# Altium integrated library TI Data Converters Digital to Analog Converter.IntLib: 1533 symbols (part 90 of 99)
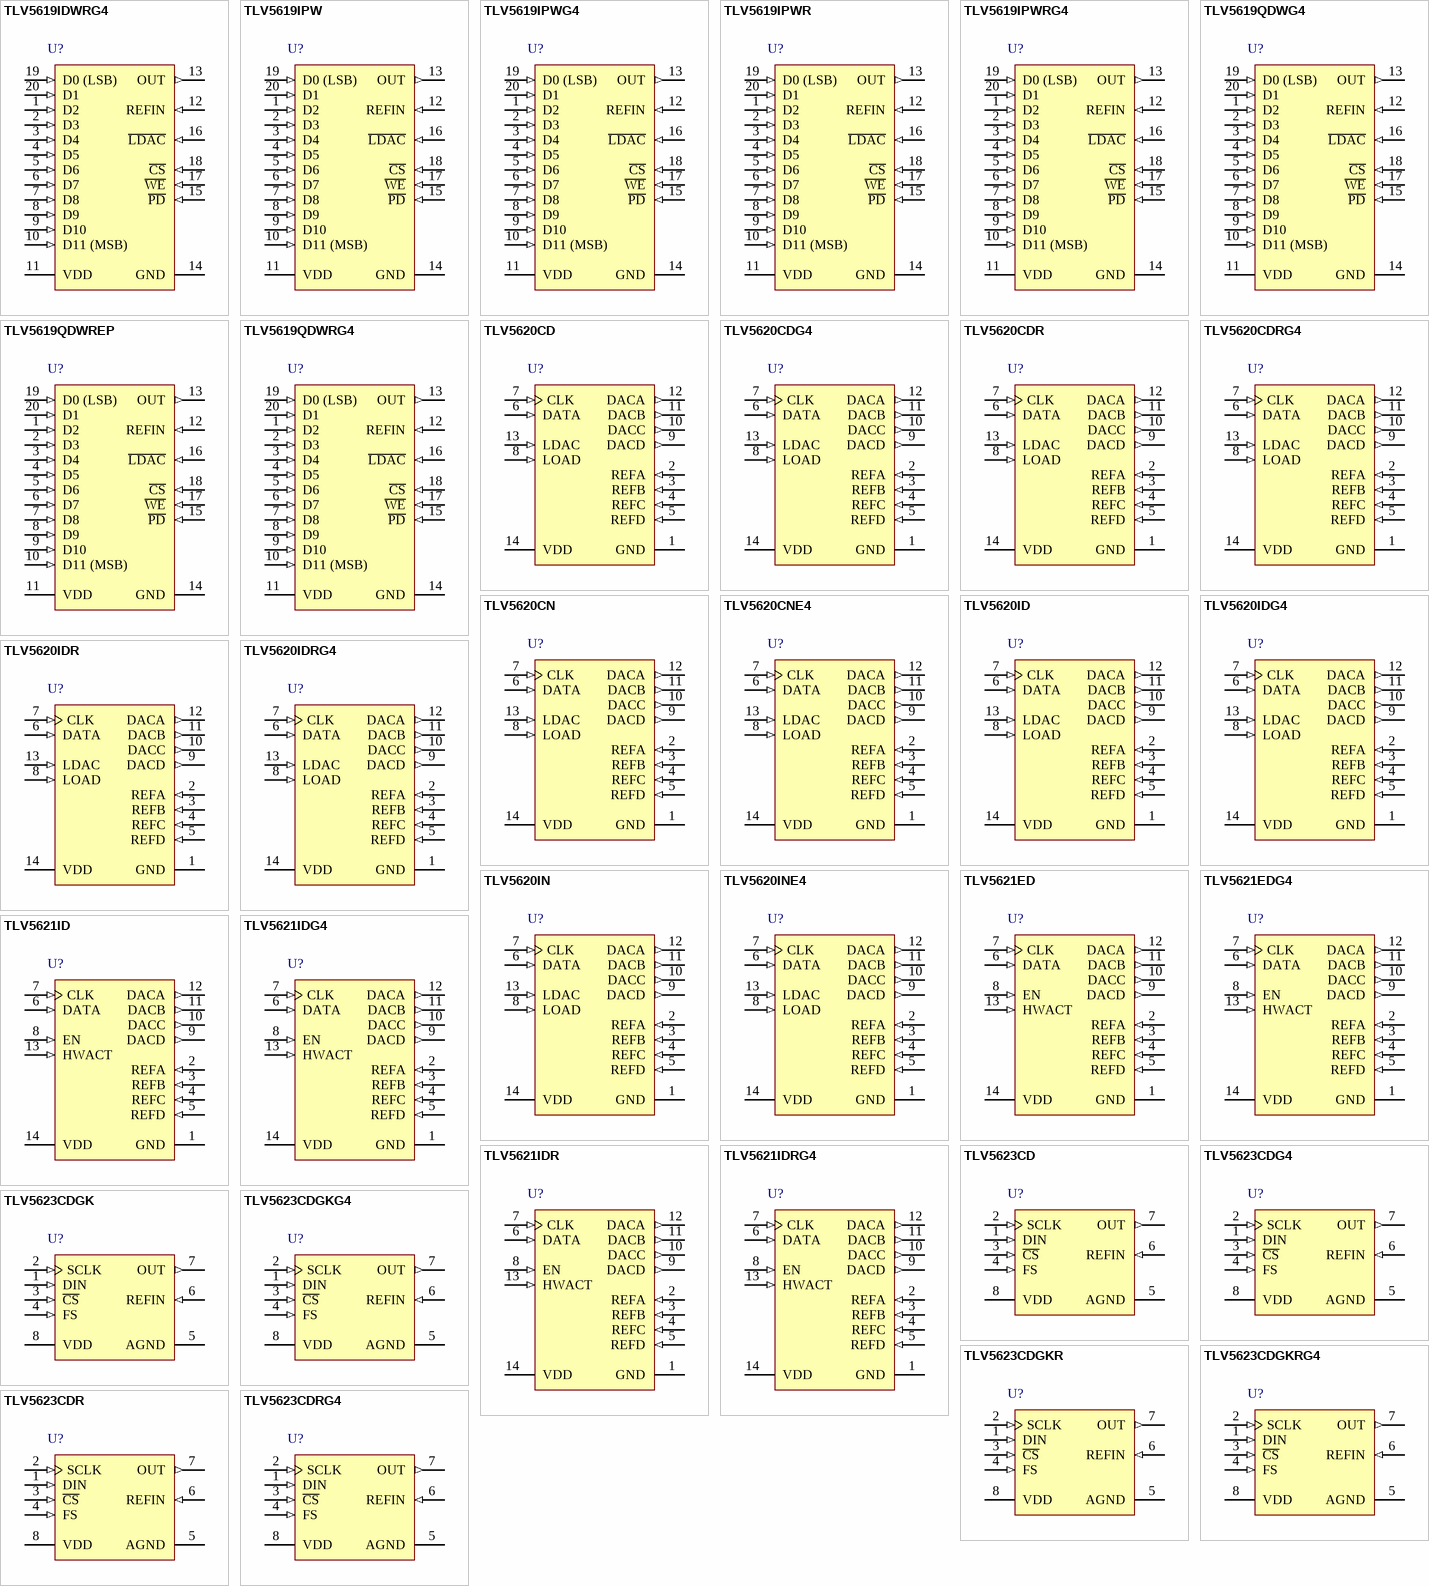
[diagram p162: symbols TLV5619IDWRG4 to TLV5623CDRG4]

## TLV5620INE4
designator U?
8-Bit, 10 us DAC, Serial Input, Quad DAC, Programmable 1 x or 2 x Output, Simultaneous Update, -40 to 85 degC, 14-pin DIP (N14), Pb-Free (RoHS); Manufacturer: Texas Instruments; PartNumber: TLV5620INE4; DAC Channels: 4; DNL(Max)(+/-LSB): 0.9; INL(Max)(+/-LSB): 1; Interface: Serial SPI; Power Consumption(Typ)(mW): 6; Resolution(Bits): 8; Settling Time(us): 10; SubFamily: Precision DAC (=<10MSPS); DatasheetVersion: SLAS110B; PackageVersion: 4040049/E, 12/2002; PackageReference: N14; PackageDescription: 14-Pin Plastic In-Line, Body 19.305 x 6.35 mm, Pitch 2.54 mm; Supplier 1: Digi-Key; Supplier Part Number 1: TLV5620INE4-ND; Supplier 2: Mouser; Supplier Part Number 2: 595-TLV5620INE4; Eco-Plan: Pb-Free (RoHS); Mounting Technology: Through Hole; Code_JEDEC: MS-001; ComponentLink1Description: Manufacturer URL; ComponentLink1URL: http://www.ti.com/; ComponentLink2Description: Datasheet; ComponentLink2URL: http://www.ti.com/general/docs/lit/getliterature.tsp?genericPartNumber=TLV5620&fileType=pdf; ComponentLink3Description: Package Specification; ComponentLink3URL: http://www.ti.com/lit/ml/mpdi002c/mpdi002c.pdf
footprint TI-N14 (DIP, 14-Leads, Body 19.305x6.35mm, Pitch 2.54mm)
pins: 1 GND (power) "Ground return and reference", 2 REFA (in) "Reference voltage input to DAC A. This voltage defines the output analog range.", 3 REFB (in) "Reference voltage input to DAC B. This voltage defines the output analog range.", 4 REFC (in) "Reference voltage input to DAC C. This voltage defines the output analog range.", 5 REFD (in) "Reference voltage input to DAC D. This voltage defines the output analog range.", 6 DATA (in) "Serial interface digital data input. The digital code for the DAC is clocked into the serial interface register serially. Each data bit is clocked into the register on the falling edge of the clock signal.", 7 CLK (in) "Serial interface clock. The input digital data is shifted into the serial interface register on the falling edge of the clock applied to the CLK terminal.", 8 LOAD (in) "Serial interface load control. When the LDAC terminal is low, the falling edge of the LOAD signal latches the digital data into the output latch and immediately produces the analog voltage at the DAC output terminal.", 9 DACD (out) "DAC D analog output", 10 DACC (out) "DAC C analog output", 11 DACB (out) "DAC B analog output", 12 DACA (out) "DAC A analog output", 13 LDAC (in) "Load DAC. When this signal is high, no DAC output updates occur when the input digital data is read into the serial interface. The DAC outputs are only updated when LDAC is taken from high to low.", 14 VDD (power) "Positive supply voltage"

## TLV5621ED
designator U?
8-Bit, 10 us Quad DAC, Serial Input, Simple 2 Wire Interface, Programmable 1 x or 2 x Output, Power Down, -40 to 85 degC, 14-pin SOIC (D14), Green (RoHS & no Sb/Br); Manufacturer: Texas Instruments; PartNumber: TLV5621ED; DAC Channels: 4; DNL(Max)(+/-LSB): 0.9; INL(Max)(+/-LSB): 1; Interface: Serial SPI; Power Consumption(Typ)(mW): 3.6; Resolution(Bits): 8; Settling Time(us): 10; SubFamily: Precision DAC (=<10MSPS); DatasheetVersion: SLAS138B; PackageVersion: 4040047-5/M, 06/2011; PackageReference: D14; PackageDescription: 14-Pin Plastic Small Outline, Body 8.65 x 3.9 mm, Pitch 1.27 mm; Supplier 1: Digi-Key; Supplier Part Number 1: 296-3050-5-ND; Supplier 2: Mouser; Supplier Part Number 2: 595-TLV5621ED; Eco-Plan: Green (RoHS & no Sb/Br); Mounting Technology: Surface Mount; Code_JEDEC: MS-012; ComponentLink1Description: Manufacturer URL; ComponentLink1URL: http://www.ti.com/; ComponentLink2Description: Datasheet; ComponentLink2URL: http://www.ti.com/general/docs/lit/getliterature.tsp?genericPartNumber=TLV5621&fileType=pdf; ComponentLink3Description: Package Specification; ComponentLink3URL: http://www.ti.com/lit/ml/mpds177g/mpds177g.pdf
footprint TI-D14_N (SOIC, 14-Leads, Body 8.65x3.9mm, Pitch 1.27mm, IPC Medium Density)
footprint TI-D14_L (SOIC, 14-Leads, Body 8.65x3.9mm, Pitch 1.27mm, IPC High Density)
footprint TI-D14_M (SOIC, 14-Leads, Body 8.65x3.9mm, Pitch 1.27mm, IPC Low Density)
pins: 1 GND (power) "Ground return and reference", 2 REFA (in) "Reference voltage input to DACA", 3 REFB (in) "Reference voltage input to DACB", 4 REFC (in) "Reference voltage input to DACC", 5 REFD (in) "Reference voltage input to DACD", 6 DATA (in) "Serial-interface digital-data input", 7 CLK (in) "Serial interface clock, data enters on the negative edge", 8 EN (in) "Input enable", 9 DACD (out) "DAC D analog output", 10 DACC (out) "DAC C analog output", 11 DACB (out) "DAC B analog output", 12 DACA (out) "DAC A analog output", 13 HWACT (in) "Global hardware activate", 14 VDD (power) "Positive supply voltage"

## TLV5621EDG4
designator U?
8-Bit, 10 us Quad DAC, Serial Input, Simple 2 Wire Interface, Programmable 1 x or 2 x Output, Power Down, -40 to 85 degC, 14-pin SOIC (D14), Green (RoHS & no Sb/Br); Manufacturer: Texas Instruments; PartNumber: TLV5621EDG4; DAC Channels: 4; DNL(Max)(+/-LSB): 0.9; INL(Max)(+/-LSB): 1; Interface: Serial SPI; Power Consumption(Typ)(mW): 3.6; Resolution(Bits): 8; Settling Time(us): 10; SubFamily: Precision DAC (=<10MSPS); DatasheetVersion: SLAS138B; PackageVersion: 4040047-5/M, 06/2011; PackageReference: D14; PackageDescription: 14-Pin Plastic Small Outline, Body 8.65 x 3.9 mm, Pitch 1.27 mm; Supplier 1: Digi-Key; Supplier Part Number 1: TLV5621EDG4-ND; Supplier 2: Mouser; Supplier Part Number 2: 595-TLV5621EDG4; Eco-Plan: Green (RoHS & no Sb/Br); Mounting Technology: Surface Mount; Code_JEDEC: MS-012; ComponentLink1Description: Manufacturer URL; ComponentLink1URL: http://www.ti.com/; ComponentLink2Description: Datasheet; ComponentLink2URL: http://www.ti.com/general/docs/lit/getliterature.tsp?genericPartNumber=TLV5621&fileType=pdf; ComponentLink3Description: Package Specification; ComponentLink3URL: http://www.ti.com/lit/ml/mpds177g/mpds177g.pdf
footprint TI-D14_N (SOIC, 14-Leads, Body 8.65x3.9mm, Pitch 1.27mm, IPC Medium Density)
footprint TI-D14_L (SOIC, 14-Leads, Body 8.65x3.9mm, Pitch 1.27mm, IPC High Density)
footprint TI-D14_M (SOIC, 14-Leads, Body 8.65x3.9mm, Pitch 1.27mm, IPC Low Density)
pins: 1 GND (power) "Ground return and reference", 2 REFA (in) "Reference voltage input to DACA", 3 REFB (in) "Reference voltage input to DACB", 4 REFC (in) "Reference voltage input to DACC", 5 REFD (in) "Reference voltage input to DACD", 6 DATA (in) "Serial-interface digital-data input", 7 CLK (in) "Serial interface clock, data enters on the negative edge", 8 EN (in) "Input enable", 9 DACD (out) "DAC D analog output", 10 DACC (out) "DAC C analog output", 11 DACB (out) "DAC B analog output", 12 DACA (out) "DAC A analog output", 13 HWACT (in) "Global hardware activate", 14 VDD (power) "Positive supply voltage"

## TLV5621ID
designator U?
8-Bit, 10 us Quad DAC, Serial Input, Simple 2 Wire Interface, Programmable 1 x or 2 x Output, Power Down, -40 to 85 degC, 14-pin SOIC (D14), Green (RoHS & no Sb/Br); Manufacturer: Texas Instruments; PartNumber: TLV5621ID; DAC Channels: 4; DNL(Max)(+/-LSB): 0.9; INL(Max)(+/-LSB): 1; Interface: Serial SPI; Power Consumption(Typ)(mW): 3.6; Resolution(Bits): 8; Settling Time(us): 10; SubFamily: Precision DAC (=<10MSPS); DatasheetVersion: SLAS138B; PackageVersion: 4040047-5/M, 06/2011; PackageReference: D14; PackageDescription: 14-Pin Plastic Small Outline, Body 8.65 x 3.9 mm, Pitch 1.27 mm; Supplier 1: Digi-Key; Supplier Part Number 1: 296-2307-5-ND; Supplier 2: Farnell; Supplier Part Number 2: 8455724; Supplier 3: Mouser; Supplier Part Number 3: 595-TLV5621ID; Eco-Plan: Green (RoHS & no Sb/Br); Mounting Technology: Surface Mount; Code_JEDEC: MS-012; ComponentLink1Description: Manufacturer URL; ComponentLink1URL: http://www.ti.com/; ComponentLink2Description: Datasheet; ComponentLink2URL: http://www.ti.com/general/docs/lit/getliterature.tsp?genericPartNumber=TLV5621&fileType=pdf; ComponentLink3Description: Package Specification; ComponentLink3URL: http://www.ti.com/lit/ml/mpds177g/mpds177g.pdf
footprint TI-D14_N (SOIC, 14-Leads, Body 8.65x3.9mm, Pitch 1.27mm, IPC Medium Density)
footprint TI-D14_L (SOIC, 14-Leads, Body 8.65x3.9mm, Pitch 1.27mm, IPC High Density)
footprint TI-D14_M (SOIC, 14-Leads, Body 8.65x3.9mm, Pitch 1.27mm, IPC Low Density)
pins: 1 GND (power) "Ground return and reference", 2 REFA (in) "Reference voltage input to DACA", 3 REFB (in) "Reference voltage input to DACB", 4 REFC (in) "Reference voltage input to DACC", 5 REFD (in) "Reference voltage input to DACD", 6 DATA (in) "Serial-interface digital-data input", 7 CLK (in) "Serial interface clock, data enters on the negative edge", 8 EN (in) "Input enable", 9 DACD (out) "DAC D analog output", 10 DACC (out) "DAC C analog output", 11 DACB (out) "DAC B analog output", 12 DACA (out) "DAC A analog output", 13 HWACT (in) "Global hardware activate", 14 VDD (power) "Positive supply voltage"

## TLV5621IDG4
designator U?
8-Bit, 10 us Quad DAC, Serial Input, Simple 2 Wire Interface, Programmable 1 x or 2 x Output, Power Down, -40 to 85 degC, 14-pin SOIC (D14), Green (RoHS & no Sb/Br); Manufacturer: Texas Instruments; PartNumber: TLV5621IDG4; DAC Channels: 4; DNL(Max)(+/-LSB): 0.9; INL(Max)(+/-LSB): 1; Interface: Serial SPI; Power Consumption(Typ)(mW): 3.6; Resolution(Bits): 8; Settling Time(us): 10; SubFamily: Precision DAC (=<10MSPS); DatasheetVersion: SLAS138B; PackageVersion: 4040047-5/M, 06/2011; PackageReference: D14; PackageDescription: 14-Pin Plastic Small Outline, Body 8.65 x 3.9 mm, Pitch 1.27 mm; Supplier 1: Digi-Key; Supplier Part Number 1: TLV5621IDG4-ND; Supplier 2: Mouser; Supplier Part Number 2: 595-TLV5621IDG4; Eco-Plan: Green (RoHS & no Sb/Br); Mounting Technology: Surface Mount; Code_JEDEC: MS-012; ComponentLink1Description: Manufacturer URL; ComponentLink1URL: http://www.ti.com/; ComponentLink2Description: Datasheet; ComponentLink2URL: http://www.ti.com/general/docs/lit/getliterature.tsp?genericPartNumber=TLV5621&fileType=pdf; ComponentLink3Description: Package Specification; ComponentLink3URL: http://www.ti.com/lit/ml/mpds177g/mpds177g.pdf
footprint TI-D14_N (SOIC, 14-Leads, Body 8.65x3.9mm, Pitch 1.27mm, IPC Medium Density)
footprint TI-D14_L (SOIC, 14-Leads, Body 8.65x3.9mm, Pitch 1.27mm, IPC High Density)
footprint TI-D14_M (SOIC, 14-Leads, Body 8.65x3.9mm, Pitch 1.27mm, IPC Low Density)
pins: 1 GND (power) "Ground return and reference", 2 REFA (in) "Reference voltage input to DACA", 3 REFB (in) "Reference voltage input to DACB", 4 REFC (in) "Reference voltage input to DACC", 5 REFD (in) "Reference voltage input to DACD", 6 DATA (in) "Serial-interface digital-data input", 7 CLK (in) "Serial interface clock, data enters on the negative edge", 8 EN (in) "Input enable", 9 DACD (out) "DAC D analog output", 10 DACC (out) "DAC C analog output", 11 DACB (out) "DAC B analog output", 12 DACA (out) "DAC A analog output", 13 HWACT (in) "Global hardware activate", 14 VDD (power) "Positive supply voltage"

## TLV5621IDR
designator U?
8-Bit, 10 us Quad DAC, Serial Input, Simple 2 Wire Interface, Programmable 1 x or 2 x Output, Power Down, -40 to 85 degC, 14-pin SOIC (D14), Green (RoHS & no Sb/Br); Manufacturer: Texas Instruments; PartNumber: TLV5621IDR; DAC Channels: 4; DNL(Max)(+/-LSB): 0.9; INL(Max)(+/-LSB): 1; Interface: Serial SPI; Power Consumption(Typ)(mW): 3.6; Resolution(Bits): 8; Settling Time(us): 10; SubFamily: Precision DAC (=<10MSPS); DatasheetVersion: SLAS138B; PackageVersion: 4040047-5/M, 06/2011; PackageReference: D14; PackageDescription: 14-Pin Plastic Small Outline, Body 8.65 x 3.9 mm, Pitch 1.27 mm; Supplier 1: Digi-Key; Supplier Part Number 1: TLV5621IDR-ND; Supplier 2: Mouser; Supplier Part Number 2: 595-TLV5621IDR; Eco-Plan: Green (RoHS & no Sb/Br); Mounting Technology: Surface Mount; Code_JEDEC: MS-012; ComponentLink1Description: Manufacturer URL; ComponentLink1URL: http://www.ti.com/; ComponentLink2Description: Datasheet; ComponentLink2URL: http://www.ti.com/general/docs/lit/getliterature.tsp?genericPartNumber=TLV5621&fileType=pdf; ComponentLink3Description: Package Specification; ComponentLink3URL: http://www.ti.com/lit/ml/mpds177g/mpds177g.pdf
footprint TI-D14_N (SOIC, 14-Leads, Body 8.65x3.9mm, Pitch 1.27mm, IPC Medium Density)
footprint TI-D14_L (SOIC, 14-Leads, Body 8.65x3.9mm, Pitch 1.27mm, IPC High Density)
footprint TI-D14_M (SOIC, 14-Leads, Body 8.65x3.9mm, Pitch 1.27mm, IPC Low Density)
pins: 1 GND (power) "Ground return and reference", 2 REFA (in) "Reference voltage input to DACA", 3 REFB (in) "Reference voltage input to DACB", 4 REFC (in) "Reference voltage input to DACC", 5 REFD (in) "Reference voltage input to DACD", 6 DATA (in) "Serial-interface digital-data input", 7 CLK (in) "Serial interface clock, data enters on the negative edge", 8 EN (in) "Input enable", 9 DACD (out) "DAC D analog output", 10 DACC (out) "DAC C analog output", 11 DACB (out) "DAC B analog output", 12 DACA (out) "DAC A analog output", 13 HWACT (in) "Global hardware activate", 14 VDD (power) "Positive supply voltage"

## TLV5621IDRG4
designator U?
8-Bit, 10 us Quad DAC, Serial Input, Simple 2 Wire Interface, Programmable 1 x or 2 x Output, Power Down, -40 to 85 degC, 14-pin SOIC (D14), Green (RoHS & no Sb/Br); Manufacturer: Texas Instruments; PartNumber: TLV5621IDRG4; DAC Channels: 4; DNL(Max)(+/-LSB): 0.9; INL(Max)(+/-LSB): 1; Interface: Serial SPI; Power Consumption(Typ)(mW): 3.6; Resolution(Bits): 8; Settling Time(us): 10; SubFamily: Precision DAC (=<10MSPS); DatasheetVersion: SLAS138B; PackageVersion: 4040047-5/M, 06/2011; PackageReference: D14; PackageDescription: 14-Pin Plastic Small Outline, Body 8.65 x 3.9 mm, Pitch 1.27 mm; Supplier 1: Digi-Key; Supplier Part Number 1: TLV5621IDRG4-ND; Supplier 2: Mouser; Supplier Part Number 2: 595-TLV5621IDRG4; Eco-Plan: Green (RoHS & no Sb/Br); Mounting Technology: Surface Mount; Code_JEDEC: MS-012; ComponentLink1Description: Manufacturer URL; ComponentLink1URL: http://www.ti.com/; ComponentLink2Description: Datasheet; ComponentLink2URL: http://www.ti.com/general/docs/lit/getliterature.tsp?genericPartNumber=TLV5621&fileType=pdf; ComponentLink3Description: Package Specification; ComponentLink3URL: http://www.ti.com/lit/ml/mpds177g/mpds177g.pdf
footprint TI-D14_N (SOIC, 14-Leads, Body 8.65x3.9mm, Pitch 1.27mm, IPC Medium Density)
footprint TI-D14_L (SOIC, 14-Leads, Body 8.65x3.9mm, Pitch 1.27mm, IPC High Density)
footprint TI-D14_M (SOIC, 14-Leads, Body 8.65x3.9mm, Pitch 1.27mm, IPC Low Density)
pins: 1 GND (power) "Ground return and reference", 2 REFA (in) "Reference voltage input to DACA", 3 REFB (in) "Reference voltage input to DACB", 4 REFC (in) "Reference voltage input to DACC", 5 REFD (in) "Reference voltage input to DACD", 6 DATA (in) "Serial-interface digital-data input", 7 CLK (in) "Serial interface clock, data enters on the negative edge", 8 EN (in) "Input enable", 9 DACD (out) "DAC D analog output", 10 DACC (out) "DAC C analog output", 11 DACB (out) "DAC B analog output", 12 DACA (out) "DAC A analog output", 13 HWACT (in) "Global hardware activate", 14 VDD (power) "Positive supply voltage"

## TLV5623CD
designator U?
8-Bit, 3 us DAC, Serial Input, Programmable Settling Time / Power Consumption, Ultra Low Power, 0 to 70 degC, 8-pin SOIC (D8), Green (RoHS & no Sb/Br); Manufacturer: Texas Instruments; PartNumber: TLV5623CD; DAC Channels: 1; DNL(Max)(+/-LSB): 0.2; INL(Max)(+/-LSB): 0.5; Interface: Serial SPI; Power Consumption(Typ)(mW): 2.1; Resolution(Bits): 8; Settling Time(us): 3; SFDR(dB): 60; SNR(dB): 57; SubFamily: Precision DAC (=<10MSPS); DatasheetVersion: SLAS231B; PackageVersion: 4040047-3/M, 06/2011; PackageReference: D8; PackageDescription: 8-Pin Plastic Small Outline, Body 4.9 x 3.9 mm, Pitch 1.27 mm; Supplier 1: Digi-Key; Supplier Part Number 1: 296-2308-5-ND; Supplier 2: Newark; Supplier Part Number 2: 19C9013; Supplier 3: Mouser; Supplier Part Number 3: 595-TLV5623CD; Eco-Plan: Green (RoHS & no Sb/Br); Mounting Technology: Surface Mount; Code_JEDEC: MS-012; ComponentLink1Description: Manufacturer URL; ComponentLink1URL: http://www.ti.com/; ComponentLink2Description: Datasheet; ComponentLink2URL: http://www.ti.com/general/docs/lit/getliterature.tsp?genericPartNumber=TLV5623&fileType=pdf; ComponentLink3Description: Package Specification; ComponentLink3URL: http://www.ti.com/litv/pdf/msoi002j
footprint TI-D8_N (SOIC, 8-Leads, Body 4.9x3.9mm, Pitch 1.27mm, IPC Medium Density)
footprint TI-D8_L (SOIC, 8-Leads, Body 4.9x3.9mm, Pitch 1.27mm, IPC High Density)
footprint TI-D8_M (SOIC, 8-Leads, Body 4.9x3.9mm, Pitch 1.27mm, IPC Low Density)
pins: 1 DIN (in) "Serial digital data input", 2 SCLK (in) "Serial digital clock input", 3 ~{CS} (in) "Chip select. Digital input used to enable and disable inputs, active low.", 4 FS (in) "Frame sync. Digital input used for 4-wire serial interfaces such as the TMS320 DSP interface.", 5 AGND (power) "Analog ground", 6 REFIN (in) "Reference analog input voltage", 7 OUT (out) "DAC analog output", 8 VDD (power) "Positive power supply"

## TLV5623CDG4
designator U?
8-Bit, 3 us DAC, Serial Input, Programmable Settling Time / Power Consumption, Ultra Low Power, 0 to 70 degC, 8-pin SOIC (D8), Green (RoHS & no Sb/Br); Manufacturer: Texas Instruments; PartNumber: TLV5623CDG4; DAC Channels: 1; DNL(Max)(+/-LSB): 0.2; INL(Max)(+/-LSB): 0.5; Interface: Serial SPI; Power Consumption(Typ)(mW): 2.1; Resolution(Bits): 8; Settling Time(us): 3; SFDR(dB): 60; SNR(dB): 57; SubFamily: Precision DAC (=<10MSPS); DatasheetVersion: SLAS231B; PackageVersion: 4040047-3/M, 06/2011; PackageReference: D8; PackageDescription: 8-Pin Plastic Small Outline, Body 4.9 x 3.9 mm, Pitch 1.27 mm; Supplier 1: Digi-Key; Supplier Part Number 1: TLV5623CDG4-ND; Supplier 2: Mouser; Supplier Part Number 2: 595-TLV5623CDG4; Eco-Plan: Green (RoHS & no Sb/Br); Mounting Technology: Surface Mount; Code_JEDEC: MS-012; ComponentLink1Description: Manufacturer URL; ComponentLink1URL: http://www.ti.com/; ComponentLink2Description: Datasheet; ComponentLink2URL: http://www.ti.com/general/docs/lit/getliterature.tsp?genericPartNumber=TLV5623&fileType=pdf; ComponentLink3Description: Package Specification; ComponentLink3URL: http://www.ti.com/litv/pdf/msoi002j
footprint TI-D8_N (SOIC, 8-Leads, Body 4.9x3.9mm, Pitch 1.27mm, IPC Medium Density)
footprint TI-D8_L (SOIC, 8-Leads, Body 4.9x3.9mm, Pitch 1.27mm, IPC High Density)
footprint TI-D8_M (SOIC, 8-Leads, Body 4.9x3.9mm, Pitch 1.27mm, IPC Low Density)
pins: 1 DIN (in) "Serial digital data input", 2 SCLK (in) "Serial digital clock input", 3 ~{CS} (in) "Chip select. Digital input used to enable and disable inputs, active low.", 4 FS (in) "Frame sync. Digital input used for 4-wire serial interfaces such as the TMS320 DSP interface.", 5 AGND (power) "Analog ground", 6 REFIN (in) "Reference analog input voltage", 7 OUT (out) "DAC analog output", 8 VDD (power) "Positive power supply"

## TLV5623CDGK
designator U?
8-Bit, 3 us DAC, Serial Input, Programmable Settling Time / Power Consumption, Ultra Low Power, 0 to 70 degC, 8-pin SOP (DGK8), Green (RoHS & no Sb/Br); Manufacturer: Texas Instruments; PartNumber: TLV5623CDGK; DAC Channels: 1; DNL(Max)(+/-LSB): 0.2; INL(Max)(+/-LSB): 0.5; Interface: Serial SPI; Power Consumption(Typ)(mW): 2.1; Resolution(Bits): 8; Settling Time(us): 3; SFDR(dB): 60; SNR(dB): 57; SubFamily: Precision DAC (=<10MSPS); DatasheetVersion: SLAS231B; PackageVersion: 4073329/E, 05/2006; PackageReference: DGK8; PackageDescription: 8-Pin Thin Small Outline, Body 3 x 3 mm, Pitch 0.65 mm; Supplier 1: Digi-Key; Supplier Part Number 1: 296-3051-5-ND; Supplier 2: Farnell; Supplier Part Number 2: 1460315; Supplier 3: Newark; Supplier Part Number 3: 62M0547; Supplier 4: Newark; Supplier Part Number 4: 76C8939; Supplier 5: Mouser; Supplier Part Number 5: 595-TLV5623CDGK; Eco-Plan: Green (RoHS & no Sb/Br); Mounting Technology: Surface Mount; Code_JEDEC: MO-187; ComponentLink1Description: Manufacturer URL; ComponentLink1URL: http://www.ti.com/; ComponentLink2Description: Datasheet; ComponentLink2URL: http://www.ti.com/general/docs/lit/getliterature.tsp?genericPartNumber=TLV5623&fileType=pdf; ComponentLink3Description: Package Specification; ComponentLink3URL: http://www.ti.com/litv/pdf/mpds028d
footprint TI-DGK8_N (SOP, 8-Leads, Body 3x3mm, Pitch 0.65mm, IPC Medium Density)
footprint TI-DGK8_L (SOP, 8-Leads, Body 3x3mm, Pitch 0.65mm, IPC High Density)
footprint TI-DGK8_M (SOP, 8-Leads, Body 3x3mm, Pitch 0.65mm, IPC Low Density)
pins: 1 DIN (in) "Serial digital data input", 2 SCLK (in) "Serial digital clock input", 3 ~{CS} (in) "Chip select. Digital input used to enable and disable inputs, active low.", 4 FS (in) "Frame sync. Digital input used for 4-wire serial interfaces such as the TMS320 DSP interface.", 5 AGND (power) "Analog ground", 6 REFIN (in) "Reference analog input voltage", 7 OUT (out) "DAC analog output", 8 VDD (power) "Positive power supply"

## TLV5623CDGKG4
designator U?
8-Bit, 3 us DAC, Serial Input, Programmable Settling Time / Power Consumption, Ultra Low Power, 0 to 70 degC, 8-pin SOP (DGK8), Green (RoHS & no Sb/Br); Manufacturer: Texas Instruments; PartNumber: TLV5623CDGKG4; DAC Channels: 1; DNL(Max)(+/-LSB): 0.2; INL(Max)(+/-LSB): 0.5; Interface: Serial SPI; Power Consumption(Typ)(mW): 2.1; Resolution(Bits): 8; Settling Time(us): 3; SFDR(dB): 60; SNR(dB): 57; SubFamily: Precision DAC (=<10MSPS); DatasheetVersion: SLAS231B; PackageVersion: 4073329/E, 05/2006; PackageReference: DGK8; PackageDescription: 8-Pin Thin Small Outline, Body 3 x 3 mm, Pitch 0.65 mm; Supplier 1: Digi-Key; Supplier Part Number 1: TLV5623CDGKG4-ND; Supplier 2: Mouser; Supplier Part Number 2: 595-TLV5623CDGKG4; Eco-Plan: Green (RoHS & no Sb/Br); Mounting Technology: Surface Mount; Code_JEDEC: MO-187; ComponentLink1Description: Manufacturer URL; ComponentLink1URL: http://www.ti.com/; ComponentLink2Description: Datasheet; ComponentLink2URL: http://www.ti.com/general/docs/lit/getliterature.tsp?genericPartNumber=TLV5623&fileType=pdf; ComponentLink3Description: Package Specification; ComponentLink3URL: http://www.ti.com/litv/pdf/mpds028d
footprint TI-DGK8_N (SOP, 8-Leads, Body 3x3mm, Pitch 0.65mm, IPC Medium Density)
footprint TI-DGK8_L (SOP, 8-Leads, Body 3x3mm, Pitch 0.65mm, IPC High Density)
footprint TI-DGK8_M (SOP, 8-Leads, Body 3x3mm, Pitch 0.65mm, IPC Low Density)
pins: 1 DIN (in) "Serial digital data input", 2 SCLK (in) "Serial digital clock input", 3 ~{CS} (in) "Chip select. Digital input used to enable and disable inputs, active low.", 4 FS (in) "Frame sync. Digital input used for 4-wire serial interfaces such as the TMS320 DSP interface.", 5 AGND (power) "Analog ground", 6 REFIN (in) "Reference analog input voltage", 7 OUT (out) "DAC analog output", 8 VDD (power) "Positive power supply"

## TLV5623CDGKR
designator U?
8-Bit, 3 us DAC, Serial Input, Programmable Settling Time / Power Consumption, Ultra Low Power, 0 to 70 degC, 8-pin SOP (DGK8), Green (RoHS & no Sb/Br); Manufacturer: Texas Instruments; PartNumber: TLV5623CDGKR; DAC Channels: 1; DNL(Max)(+/-LSB): 0.2; INL(Max)(+/-LSB): 0.5; Interface: Serial SPI; Power Consumption(Typ)(mW): 2.1; Resolution(Bits): 8; Settling Time(us): 3; SFDR(dB): 60; SNR(dB): 57; SubFamily: Precision DAC (=<10MSPS); DatasheetVersion: SLAS231B; PackageVersion: 4073329/E, 05/2006; PackageReference: DGK8; PackageDescription: 8-Pin Thin Small Outline, Body 3 x 3 mm, Pitch 0.65 mm; Supplier 1: Digi-Key; Supplier Part Number 1: TLV5623CDGKR-ND; Supplier 2: Newark; Supplier Part Number 2: 76C8940; Supplier 3: Mouser; Supplier Part Number 3: 595-TLV5623CDGKR; Eco-Plan: Green (RoHS & no Sb/Br); Mounting Technology: Surface Mount; Code_JEDEC: MO-187; ComponentLink1Description: Manufacturer URL; ComponentLink1URL: http://www.ti.com/; ComponentLink2Description: Datasheet; ComponentLink2URL: http://www.ti.com/general/docs/lit/getliterature.tsp?genericPartNumber=TLV5623&fileType=pdf; ComponentLink3Description: Package Specification; ComponentLink3URL: http://www.ti.com/litv/pdf/mpds028d
footprint TI-DGK8_N (SOP, 8-Leads, Body 3x3mm, Pitch 0.65mm, IPC Medium Density)
footprint TI-DGK8_L (SOP, 8-Leads, Body 3x3mm, Pitch 0.65mm, IPC High Density)
footprint TI-DGK8_M (SOP, 8-Leads, Body 3x3mm, Pitch 0.65mm, IPC Low Density)
pins: 1 DIN (in) "Serial digital data input", 2 SCLK (in) "Serial digital clock input", 3 ~{CS} (in) "Chip select. Digital input used to enable and disable inputs, active low.", 4 FS (in) "Frame sync. Digital input used for 4-wire serial interfaces such as the TMS320 DSP interface.", 5 AGND (power) "Analog ground", 6 REFIN (in) "Reference analog input voltage", 7 OUT (out) "DAC analog output", 8 VDD (power) "Positive power supply"

## TLV5623CDGKRG4
designator U?
8-Bit, 3 us DAC, Serial Input, Programmable Settling Time / Power Consumption, Ultra Low Power, 0 to 70 degC, 8-pin SOP (DGK8), Green (RoHS & no Sb/Br); Manufacturer: Texas Instruments; PartNumber: TLV5623CDGKRG4; DAC Channels: 1; DNL(Max)(+/-LSB): 0.2; INL(Max)(+/-LSB): 0.5; Interface: Serial SPI; Power Consumption(Typ)(mW): 2.1; Resolution(Bits): 8; Settling Time(us): 3; SFDR(dB): 60; SNR(dB): 57; SubFamily: Precision DAC (=<10MSPS); DatasheetVersion: SLAS231B; PackageVersion: 4073329/E, 05/2006; PackageReference: DGK8; PackageDescription: 8-Pin Thin Small Outline, Body 3 x 3 mm, Pitch 0.65 mm; Supplier 1: Digi-Key; Supplier Part Number 1: TLV5623CDGKRG4-ND; Supplier 2: Mouser; Supplier Part Number 2: 595-TLV5623CDGKRG4; Eco-Plan: Green (RoHS & no Sb/Br); Mounting Technology: Surface Mount; Code_JEDEC: MO-187; ComponentLink1Description: Manufacturer URL; ComponentLink1URL: http://www.ti.com/; ComponentLink2Description: Datasheet; ComponentLink2URL: http://www.ti.com/general/docs/lit/getliterature.tsp?genericPartNumber=TLV5623&fileType=pdf; ComponentLink3Description: Package Specification; ComponentLink3URL: http://www.ti.com/litv/pdf/mpds028d
footprint TI-DGK8_N (SOP, 8-Leads, Body 3x3mm, Pitch 0.65mm, IPC Medium Density)
footprint TI-DGK8_L (SOP, 8-Leads, Body 3x3mm, Pitch 0.65mm, IPC High Density)
footprint TI-DGK8_M (SOP, 8-Leads, Body 3x3mm, Pitch 0.65mm, IPC Low Density)
pins: 1 DIN (in) "Serial digital data input", 2 SCLK (in) "Serial digital clock input", 3 ~{CS} (in) "Chip select. Digital input used to enable and disable inputs, active low.", 4 FS (in) "Frame sync. Digital input used for 4-wire serial interfaces such as the TMS320 DSP interface.", 5 AGND (power) "Analog ground", 6 REFIN (in) "Reference analog input voltage", 7 OUT (out) "DAC analog output", 8 VDD (power) "Positive power supply"

## TLV5623CDR
designator U?
8-Bit, 3 us DAC, Serial Input, Programmable Settling Time / Power Consumption, Ultra Low Power, 0 to 70 degC, 8-pin SOIC (D8), Green (RoHS & no Sb/Br); Manufacturer: Texas Instruments; PartNumber: TLV5623CDR; DAC Channels: 1; DNL(Max)(+/-LSB): 0.2; INL(Max)(+/-LSB): 0.5; Interface: Serial SPI; Power Consumption(Typ)(mW): 2.1; Resolution(Bits): 8; Settling Time(us): 3; SFDR(dB): 60; SNR(dB): 57; SubFamily: Precision DAC (=<10MSPS); DatasheetVersion: SLAS231B; PackageVersion: 4040047-3/M, 06/2011; PackageReference: D8; PackageDescription: 8-Pin Plastic Small Outline, Body 4.9 x 3.9 mm, Pitch 1.27 mm; Supplier 1: Digi-Key; Supplier Part Number 1: TLV5623CDR-ND; Supplier 2: Newark; Supplier Part Number 2: 76C8941; Supplier 3: Mouser; Supplier Part Number 3: 595-TLV5623CDR; Eco-Plan: Green (RoHS & no Sb/Br); Mounting Technology: Surface Mount; Code_JEDEC: MS-012; ComponentLink1Description: Manufacturer URL; ComponentLink1URL: http://www.ti.com/; ComponentLink2Description: Datasheet; ComponentLink2URL: http://www.ti.com/general/docs/lit/getliterature.tsp?genericPartNumber=TLV5623&fileType=pdf; ComponentLink3Description: Package Specification; ComponentLink3URL: http://www.ti.com/litv/pdf/msoi002j
footprint TI-D8_N (SOIC, 8-Leads, Body 4.9x3.9mm, Pitch 1.27mm, IPC Medium Density)
footprint TI-D8_L (SOIC, 8-Leads, Body 4.9x3.9mm, Pitch 1.27mm, IPC High Density)
footprint TI-D8_M (SOIC, 8-Leads, Body 4.9x3.9mm, Pitch 1.27mm, IPC Low Density)
pins: 1 DIN (in) "Serial digital data input", 2 SCLK (in) "Serial digital clock input", 3 ~{CS} (in) "Chip select. Digital input used to enable and disable inputs, active low.", 4 FS (in) "Frame sync. Digital input used for 4-wire serial interfaces such as the TMS320 DSP interface.", 5 AGND (power) "Analog ground", 6 REFIN (in) "Reference analog input voltage", 7 OUT (out) "DAC analog output", 8 VDD (power) "Positive power supply"

## TLV5623CDRG4
designator U?
8-Bit, 3 us DAC, Serial Input, Programmable Settling Time / Power Consumption, Ultra Low Power, 0 to 70 degC, 8-pin SOIC (D8), Green (RoHS & no Sb/Br); Manufacturer: Texas Instruments; PartNumber: TLV5623CDRG4; DAC Channels: 1; DNL(Max)(+/-LSB): 0.2; INL(Max)(+/-LSB): 0.5; Interface: Serial SPI; Power Consumption(Typ)(mW): 2.1; Resolution(Bits): 8; Settling Time(us): 3; SFDR(dB): 60; SNR(dB): 57; SubFamily: Precision DAC (=<10MSPS); DatasheetVersion: SLAS231B; PackageVersion: 4040047-3/M, 06/2011; PackageReference: D8; PackageDescription: 8-Pin Plastic Small Outline, Body 4.9 x 3.9 mm, Pitch 1.27 mm; Supplier 1: Digi-Key; Supplier Part Number 1: TLV5623CDRG4-ND; Supplier 2: Mouser; Supplier Part Number 2: 595-TLV5623CDRG4; Eco-Plan: Green (RoHS & no Sb/Br); Mounting Technology: Surface Mount; Code_JEDEC: MS-012; ComponentLink1Description: Manufacturer URL; ComponentLink1URL: http://www.ti.com/; ComponentLink2Description: Datasheet; ComponentLink2URL: http://www.ti.com/general/docs/lit/getliterature.tsp?genericPartNumber=TLV5623&fileType=pdf; ComponentLink3Description: Package Specification; ComponentLink3URL: http://www.ti.com/litv/pdf/msoi002j
footprint TI-D8_N (SOIC, 8-Leads, Body 4.9x3.9mm, Pitch 1.27mm, IPC Medium Density)
footprint TI-D8_L (SOIC, 8-Leads, Body 4.9x3.9mm, Pitch 1.27mm, IPC High Density)
footprint TI-D8_M (SOIC, 8-Leads, Body 4.9x3.9mm, Pitch 1.27mm, IPC Low Density)
pins: 1 DIN (in) "Serial digital data input", 2 SCLK (in) "Serial digital clock input", 3 ~{CS} (in) "Chip select. Digital input used to enable and disable inputs, active low.", 4 FS (in) "Frame sync. Digital input used for 4-wire serial interfaces such as the TMS320 DSP interface.", 5 AGND (power) "Analog ground", 6 REFIN (in) "Reference analog input voltage", 7 OUT (out) "DAC analog output", 8 VDD (power) "Positive power supply"

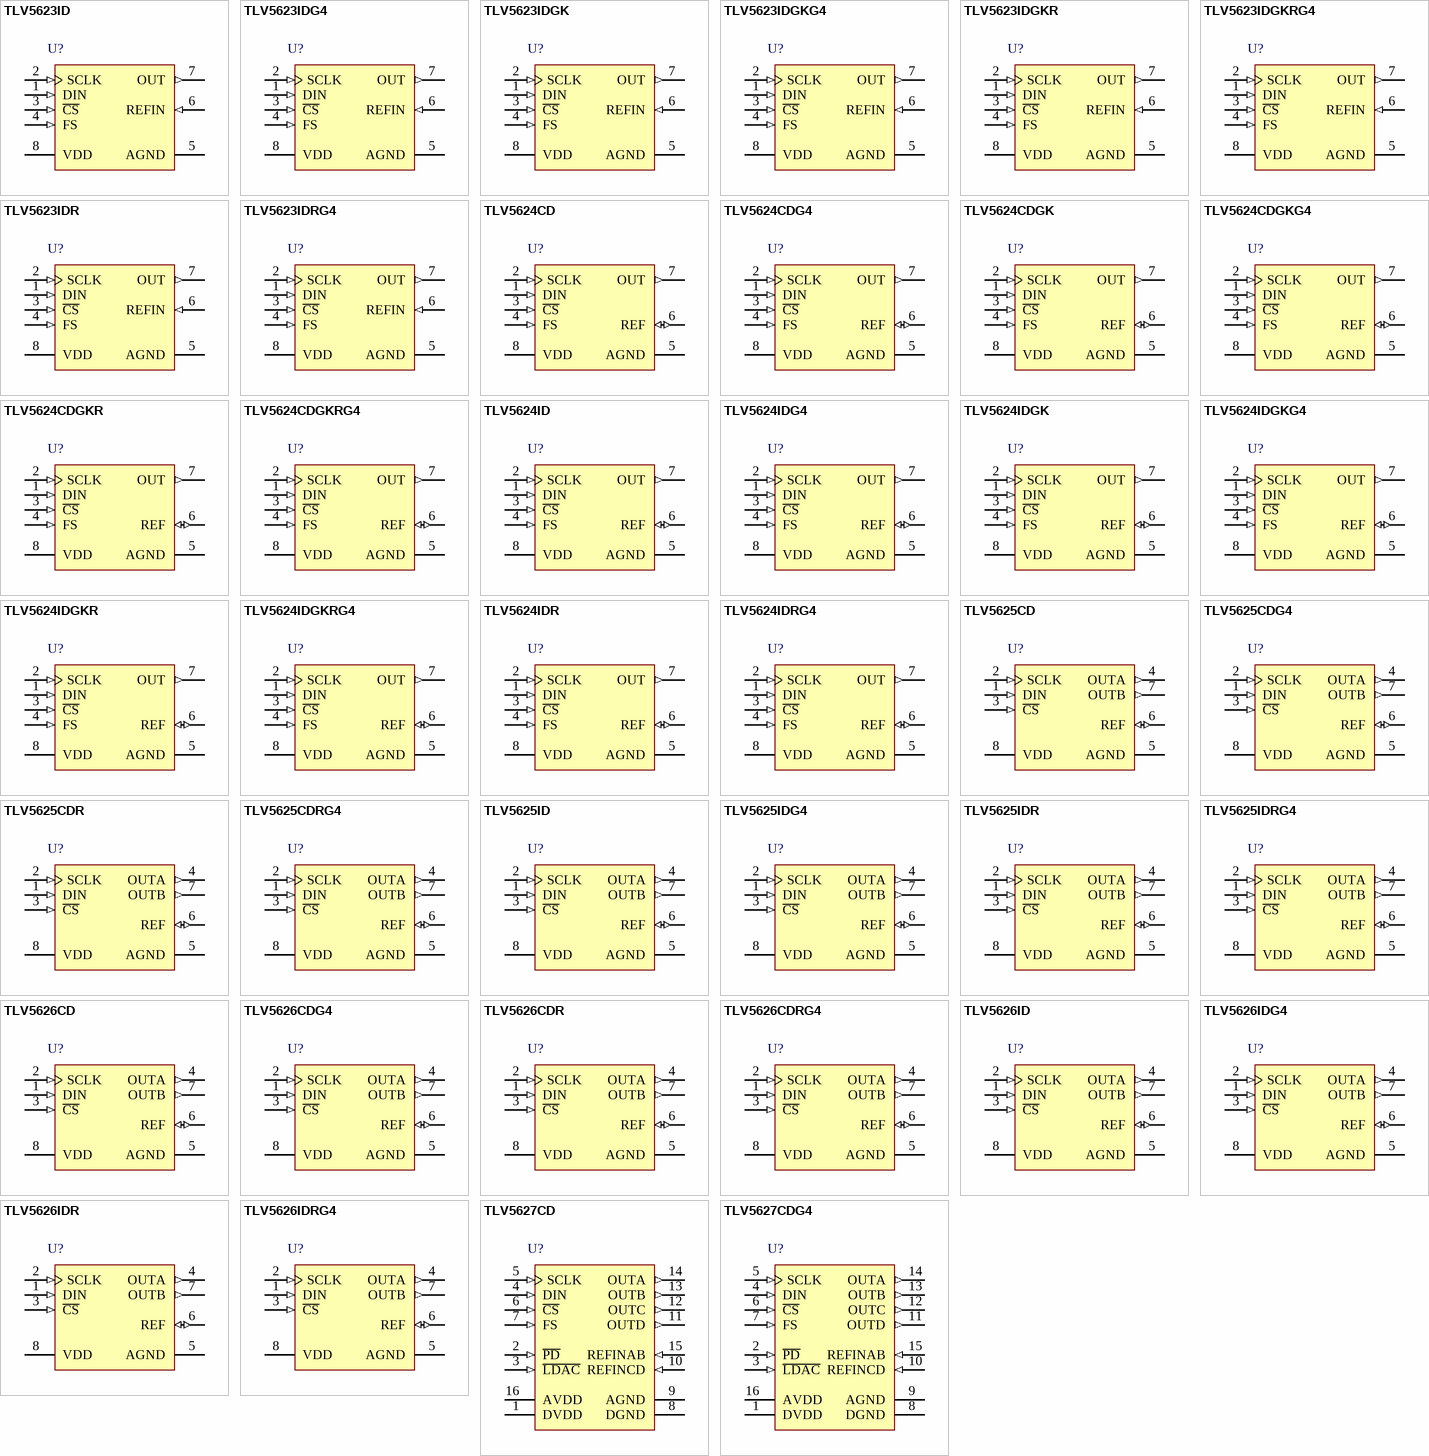
[diagram p67: symbols TLV5623ID to TLV5627CDG4]

## TLV5623ID
designator U?
8-Bit, 3 us DAC, Serial Input, Programmable Settling Time / Power Consumption, Ultra Low Power, -40 to 85 degC, 8-pin SOIC (D8), Green (RoHS & no Sb/Br); Manufacturer: Texas Instruments; PartNumber: TLV5623ID; DAC Channels: 1; DNL(Max)(+/-LSB): 0.2; INL(Max)(+/-LSB): 0.5; Interface: Serial SPI; Power Consumption(Typ)(mW): 2.1; Resolution(Bits): 8; Settling Time(us): 3; SFDR(dB): 60; SNR(dB): 57; SubFamily: Precision DAC (=<10MSPS); DatasheetVersion: SLAS231B; PackageVersion: 4040047-3/M, 06/2011; PackageReference: D8; PackageDescription: 8-Pin Plastic Small Outline, Body 4.9 x 3.9 mm, Pitch 1.27 mm; Supplier 1: Digi-Key; Supplier Part Number 1: 296-3052-5-ND; Supplier 2: Farnell; Supplier Part Number 2: 8455732; Supplier 3: Newark; Supplier Part Number 3: 38K8488; Supplier 4: Newark; Supplier Part Number 4: 76C8942; Supplier 5: Mouser; Supplier Part Number 5: 595-TLV5623ID; Eco-Plan: Green (RoHS & no Sb/Br); Mounting Technology: Surface Mount; Code_JEDEC: MS-012; ComponentLink1Description: Manufacturer URL; ComponentLink1URL: http://www.ti.com/; ComponentLink2Description: Datasheet; ComponentLink2URL: http://www.ti.com/general/docs/lit/getliterature.tsp?genericPartNumber=TLV5623&fileType=pdf; ComponentLink3Description: Package Specification; ComponentLink3URL: http://www.ti.com/litv/pdf/msoi002j
footprint TI-D8_N (SOIC, 8-Leads, Body 4.9x3.9mm, Pitch 1.27mm, IPC Medium Density)
footprint TI-D8_L (SOIC, 8-Leads, Body 4.9x3.9mm, Pitch 1.27mm, IPC High Density)
footprint TI-D8_M (SOIC, 8-Leads, Body 4.9x3.9mm, Pitch 1.27mm, IPC Low Density)
pins: 1 DIN (in) "Serial digital data input", 2 SCLK (in) "Serial digital clock input", 3 ~{CS} (in) "Chip select. Digital input used to enable and disable inputs, active low.", 4 FS (in) "Frame sync. Digital input used for 4-wire serial interfaces such as the TMS320 DSP interface.", 5 AGND (power) "Analog ground", 6 REFIN (in) "Reference analog input voltage", 7 OUT (out) "DAC analog output", 8 VDD (power) "Positive power supply"

## TLV5623IDG4
designator U?
8-Bit, 3 us DAC, Serial Input, Programmable Settling Time / Power Consumption, Ultra Low Power, -40 to 85 degC, 8-pin SOIC (D8), Green (RoHS & no Sb/Br); Manufacturer: Texas Instruments; PartNumber: TLV5623IDG4; DAC Channels: 1; DNL(Max)(+/-LSB): 0.2; INL(Max)(+/-LSB): 0.5; Interface: Serial SPI; Power Consumption(Typ)(mW): 2.1; Resolution(Bits): 8; Settling Time(us): 3; SFDR(dB): 60; SNR(dB): 57; SubFamily: Precision DAC (=<10MSPS); DatasheetVersion: SLAS231B; PackageVersion: 4040047-3/M, 06/2011; PackageReference: D8; PackageDescription: 8-Pin Plastic Small Outline, Body 4.9 x 3.9 mm, Pitch 1.27 mm; Supplier 1: Digi-Key; Supplier Part Number 1: TLV5623IDG4-ND; Supplier 2: Mouser; Supplier Part Number 2: 595-TLV5623IDG4; Eco-Plan: Green (RoHS & no Sb/Br); Mounting Technology: Surface Mount; Code_JEDEC: MS-012; ComponentLink1Description: Manufacturer URL; ComponentLink1URL: http://www.ti.com/; ComponentLink2Description: Datasheet; ComponentLink2URL: http://www.ti.com/general/docs/lit/getliterature.tsp?genericPartNumber=TLV5623&fileType=pdf; ComponentLink3Description: Package Specification; ComponentLink3URL: http://www.ti.com/litv/pdf/msoi002j
footprint TI-D8_N (SOIC, 8-Leads, Body 4.9x3.9mm, Pitch 1.27mm, IPC Medium Density)
footprint TI-D8_L (SOIC, 8-Leads, Body 4.9x3.9mm, Pitch 1.27mm, IPC High Density)
footprint TI-D8_M (SOIC, 8-Leads, Body 4.9x3.9mm, Pitch 1.27mm, IPC Low Density)
pins: 1 DIN (in) "Serial digital data input", 2 SCLK (in) "Serial digital clock input", 3 ~{CS} (in) "Chip select. Digital input used to enable and disable inputs, active low.", 4 FS (in) "Frame sync. Digital input used for 4-wire serial interfaces such as the TMS320 DSP interface.", 5 AGND (power) "Analog ground", 6 REFIN (in) "Reference analog input voltage", 7 OUT (out) "DAC analog output", 8 VDD (power) "Positive power supply"

## TLV5623IDGK
designator U?
8-Bit, 3 us DAC, Serial Input, Programmable Settling Time / Power Consumption, Ultra Low Power, -40 to 85 degC, 8-pin SOP (DGK8), Green (RoHS & no Sb/Br); Manufacturer: Texas Instruments; PartNumber: TLV5623IDGK; DAC Channels: 1; DNL(Max)(+/-LSB): 0.2; INL(Max)(+/-LSB): 0.5; Interface: Serial SPI; Power Consumption(Typ)(mW): 2.1; Resolution(Bits): 8; Settling Time(us): 3; SFDR(dB): 60; SNR(dB): 57; SubFamily: Precision DAC (=<10MSPS); DatasheetVersion: SLAS231B; PackageVersion: 4073329/E, 05/2006; PackageReference: DGK8; PackageDescription: 8-Pin Thin Small Outline, Body 3 x 3 mm, Pitch 0.65 mm; Supplier 1: Digi-Key; Supplier Part Number 1: 296-3053-5-ND; Supplier 2: Mouser; Supplier Part Number 2: 595-TLV5623IDGK; Eco-Plan: Green (RoHS & no Sb/Br); Mounting Technology: Surface Mount; Code_JEDEC: MO-187; ComponentLink1Description: Manufacturer URL; ComponentLink1URL: http://www.ti.com/; ComponentLink2Description: Datasheet; ComponentLink2URL: http://www.ti.com/general/docs/lit/getliterature.tsp?genericPartNumber=TLV5623&fileType=pdf; ComponentLink3Description: Package Specification; ComponentLink3URL: http://www.ti.com/litv/pdf/mpds028d
footprint TI-DGK8_N (SOP, 8-Leads, Body 3x3mm, Pitch 0.65mm, IPC Medium Density)
footprint TI-DGK8_L (SOP, 8-Leads, Body 3x3mm, Pitch 0.65mm, IPC High Density)
footprint TI-DGK8_M (SOP, 8-Leads, Body 3x3mm, Pitch 0.65mm, IPC Low Density)
pins: 1 DIN (in) "Serial digital data input", 2 SCLK (in) "Serial digital clock input", 3 ~{CS} (in) "Chip select. Digital input used to enable and disable inputs, active low.", 4 FS (in) "Frame sync. Digital input used for 4-wire serial interfaces such as the TMS320 DSP interface.", 5 AGND (power) "Analog ground", 6 REFIN (in) "Reference analog input voltage", 7 OUT (out) "DAC analog output", 8 VDD (power) "Positive power supply"

## TLV5623IDGKG4
designator U?
8-Bit, 3 us DAC, Serial Input, Programmable Settling Time / Power Consumption, Ultra Low Power, -40 to 85 degC, 8-pin SOP (DGK8), Green (RoHS & no Sb/Br); Manufacturer: Texas Instruments; PartNumber: TLV5623IDGKG4; DAC Channels: 1; DNL(Max)(+/-LSB): 0.2; INL(Max)(+/-LSB): 0.5; Interface: Serial SPI; Power Consumption(Typ)(mW): 2.1; Resolution(Bits): 8; Settling Time(us): 3; SFDR(dB): 60; SNR(dB): 57; SubFamily: Precision DAC (=<10MSPS); DatasheetVersion: SLAS231B; PackageVersion: 4073329/E, 05/2006; PackageReference: DGK8; PackageDescription: 8-Pin Thin Small Outline, Body 3 x 3 mm, Pitch 0.65 mm; Supplier 1: Digi-Key; Supplier Part Number 1: TLV5623IDGKG4-ND; Supplier 2: Mouser; Supplier Part Number 2: 595-TLV5623IDGKG4; Eco-Plan: Green (RoHS & no Sb/Br); Mounting Technology: Surface Mount; Code_JEDEC: MO-187; ComponentLink1Description: Manufacturer URL; ComponentLink1URL: http://www.ti.com/; ComponentLink2Description: Datasheet; ComponentLink2URL: http://www.ti.com/general/docs/lit/getliterature.tsp?genericPartNumber=TLV5623&fileType=pdf; ComponentLink3Description: Package Specification; ComponentLink3URL: http://www.ti.com/litv/pdf/mpds028d
footprint TI-DGK8_N (SOP, 8-Leads, Body 3x3mm, Pitch 0.65mm, IPC Medium Density)
footprint TI-DGK8_L (SOP, 8-Leads, Body 3x3mm, Pitch 0.65mm, IPC High Density)
footprint TI-DGK8_M (SOP, 8-Leads, Body 3x3mm, Pitch 0.65mm, IPC Low Density)
pins: 1 DIN (in) "Serial digital data input", 2 SCLK (in) "Serial digital clock input", 3 ~{CS} (in) "Chip select. Digital input used to enable and disable inputs, active low.", 4 FS (in) "Frame sync. Digital input used for 4-wire serial interfaces such as the TMS320 DSP interface.", 5 AGND (power) "Analog ground", 6 REFIN (in) "Reference analog input voltage", 7 OUT (out) "DAC analog output", 8 VDD (power) "Positive power supply"

## TLV5623IDGKR
designator U?
8-Bit, 3 us DAC, Serial Input, Programmable Settling Time / Power Consumption, Ultra Low Power, -40 to 85 degC, 8-pin SOP (DGK8), Green (RoHS & no Sb/Br); Manufacturer: Texas Instruments; PartNumber: TLV5623IDGKR; DAC Channels: 1; DNL(Max)(+/-LSB): 0.2; INL(Max)(+/-LSB): 0.5; Interface: Serial SPI; Power Consumption(Typ)(mW): 2.1; Resolution(Bits): 8; Settling Time(us): 3; SFDR(dB): 60; SNR(dB): 57; SubFamily: Precision DAC (=<10MSPS); DatasheetVersion: SLAS231B; PackageVersion: 4073329/E, 05/2006; PackageReference: DGK8; PackageDescription: 8-Pin Thin Small Outline, Body 3 x 3 mm, Pitch 0.65 mm; Supplier 1: Digi-Key; Supplier Part Number 1: TLV5623IDGKR-ND; Supplier 2: Newark; Supplier Part Number 2: 76C8944; Supplier 3: Mouser; Supplier Part Number 3: 595-TLV5623IDGKR; Eco-Plan: Green (RoHS & no Sb/Br); Mounting Technology: Surface Mount; Code_JEDEC: MO-187; ComponentLink1Description: Manufacturer URL; ComponentLink1URL: http://www.ti.com/; ComponentLink2Description: Datasheet; ComponentLink2URL: http://www.ti.com/general/docs/lit/getliterature.tsp?genericPartNumber=TLV5623&fileType=pdf; ComponentLink3Description: Package Specification; ComponentLink3URL: http://www.ti.com/litv/pdf/mpds028d
footprint TI-DGK8_N (SOP, 8-Leads, Body 3x3mm, Pitch 0.65mm, IPC Medium Density)
footprint TI-DGK8_L (SOP, 8-Leads, Body 3x3mm, Pitch 0.65mm, IPC High Density)
footprint TI-DGK8_M (SOP, 8-Leads, Body 3x3mm, Pitch 0.65mm, IPC Low Density)
pins: 1 DIN (in) "Serial digital data input", 2 SCLK (in) "Serial digital clock input", 3 ~{CS} (in) "Chip select. Digital input used to enable and disable inputs, active low.", 4 FS (in) "Frame sync. Digital input used for 4-wire serial interfaces such as the TMS320 DSP interface.", 5 AGND (power) "Analog ground", 6 REFIN (in) "Reference analog input voltage", 7 OUT (out) "DAC analog output", 8 VDD (power) "Positive power supply"

## TLV5623IDGKRG4
designator U?
8-Bit, 3 us DAC, Serial Input, Programmable Settling Time / Power Consumption, Ultra Low Power, -40 to 85 degC, 8-pin SOP (DGK8), Green (RoHS & no Sb/Br); Manufacturer: Texas Instruments; PartNumber: TLV5623IDGKRG4; DAC Channels: 1; DNL(Max)(+/-LSB): 0.2; INL(Max)(+/-LSB): 0.5; Interface: Serial SPI; Power Consumption(Typ)(mW): 2.1; Resolution(Bits): 8; Settling Time(us): 3; SFDR(dB): 60; SNR(dB): 57; SubFamily: Precision DAC (=<10MSPS); DatasheetVersion: SLAS231B; PackageVersion: 4073329/E, 05/2006; PackageReference: DGK8; PackageDescription: 8-Pin Thin Small Outline, Body 3 x 3 mm, Pitch 0.65 mm; Supplier 1: Digi-Key; Supplier Part Number 1: TLV5623IDGKRG4-ND; Supplier 2: Mouser; Supplier Part Number 2: 595-TLV5623IDGKRG4; Eco-Plan: Green (RoHS & no Sb/Br); Mounting Technology: Surface Mount; Code_JEDEC: MO-187; ComponentLink1Description: Manufacturer URL; ComponentLink1URL: http://www.ti.com/; ComponentLink2Description: Datasheet; ComponentLink2URL: http://www.ti.com/general/docs/lit/getliterature.tsp?genericPartNumber=TLV5623&fileType=pdf; ComponentLink3Description: Package Specification; ComponentLink3URL: http://www.ti.com/litv/pdf/mpds028d
footprint TI-DGK8_N (SOP, 8-Leads, Body 3x3mm, Pitch 0.65mm, IPC Medium Density)
footprint TI-DGK8_L (SOP, 8-Leads, Body 3x3mm, Pitch 0.65mm, IPC High Density)
footprint TI-DGK8_M (SOP, 8-Leads, Body 3x3mm, Pitch 0.65mm, IPC Low Density)
pins: 1 DIN (in) "Serial digital data input", 2 SCLK (in) "Serial digital clock input", 3 ~{CS} (in) "Chip select. Digital input used to enable and disable inputs, active low.", 4 FS (in) "Frame sync. Digital input used for 4-wire serial interfaces such as the TMS320 DSP interface.", 5 AGND (power) "Analog ground", 6 REFIN (in) "Reference analog input voltage", 7 OUT (out) "DAC analog output", 8 VDD (power) "Positive power supply"

## TLV5623IDR
designator U?
8-Bit, 3 us DAC, Serial Input, Programmable Settling Time / Power Consumption, Ultra Low Power, -40 to 85 degC, 8-pin SOIC (D8), Green (RoHS & no Sb/Br); Manufacturer: Texas Instruments; PartNumber: TLV5623IDR; DAC Channels: 1; DNL(Max)(+/-LSB): 0.2; INL(Max)(+/-LSB): 0.5; Interface: Serial SPI; Power Consumption(Typ)(mW): 2.1; Resolution(Bits): 8; Settling Time(us): 3; SFDR(dB): 60; SNR(dB): 57; SubFamily: Precision DAC (=<10MSPS); DatasheetVersion: SLAS231B; PackageVersion: 4040047-3/M, 06/2011; PackageReference: D8; PackageDescription: 8-Pin Plastic Small Outline, Body 4.9 x 3.9 mm, Pitch 1.27 mm; Supplier 1: Digi-Key; Supplier Part Number 1: TLV5623IDR-ND; Supplier 2: Newark; Supplier Part Number 2: 76C8945; Supplier 3: Mouser; Supplier Part Number 3: 595-TLV5623IDR; Eco-Plan: Green (RoHS & no Sb/Br); Mounting Technology: Surface Mount; Code_JEDEC: MS-012; ComponentLink1Description: Manufacturer URL; ComponentLink1URL: http://www.ti.com/; ComponentLink2Description: Datasheet; ComponentLink2URL: http://www.ti.com/general/docs/lit/getliterature.tsp?genericPartNumber=TLV5623&fileType=pdf; ComponentLink3Description: Package Specification; ComponentLink3URL: http://www.ti.com/litv/pdf/msoi002j
footprint TI-D8_N (SOIC, 8-Leads, Body 4.9x3.9mm, Pitch 1.27mm, IPC Medium Density)
footprint TI-D8_L (SOIC, 8-Leads, Body 4.9x3.9mm, Pitch 1.27mm, IPC High Density)
footprint TI-D8_M (SOIC, 8-Leads, Body 4.9x3.9mm, Pitch 1.27mm, IPC Low Density)
pins: 1 DIN (in) "Serial digital data input", 2 SCLK (in) "Serial digital clock input", 3 ~{CS} (in) "Chip select. Digital input used to enable and disable inputs, active low.", 4 FS (in) "Frame sync. Digital input used for 4-wire serial interfaces such as the TMS320 DSP interface.", 5 AGND (power) "Analog ground", 6 REFIN (in) "Reference analog input voltage", 7 OUT (out) "DAC analog output", 8 VDD (power) "Positive power supply"

## TLV5623IDRG4
designator U?
8-Bit, 3 us DAC, Serial Input, Programmable Settling Time / Power Consumption, Ultra Low Power, -40 to 85 degC, 8-pin SOIC (D8), Green (RoHS & no Sb/Br); Manufacturer: Texas Instruments; PartNumber: TLV5623IDRG4; DAC Channels: 1; DNL(Max)(+/-LSB): 0.2; INL(Max)(+/-LSB): 0.5; Interface: Serial SPI; Power Consumption(Typ)(mW): 2.1; Resolution(Bits): 8; Settling Time(us): 3; SFDR(dB): 60; SNR(dB): 57; SubFamily: Precision DAC (=<10MSPS); DatasheetVersion: SLAS231B; PackageVersion: 4040047-3/M, 06/2011; PackageReference: D8; PackageDescription: 8-Pin Plastic Small Outline, Body 4.9 x 3.9 mm, Pitch 1.27 mm; Supplier 1: Digi-Key; Supplier Part Number 1: TLV5623IDRG4-ND; Supplier 2: Newark; Supplier Part Number 2: 99K4374; Supplier 3: Mouser; Supplier Part Number 3: 595-TLV5623IDRG4; Eco-Plan: Green (RoHS & no Sb/Br); Mounting Technology: Surface Mount; Code_JEDEC: MS-012; ComponentLink1Description: Manufacturer URL; ComponentLink1URL: http://www.ti.com/; ComponentLink2Description: Datasheet; ComponentLink2URL: http://www.ti.com/general/docs/lit/getliterature.tsp?genericPartNumber=TLV5623&fileType=pdf; ComponentLink3Description: Package Specification; ComponentLink3URL: http://www.ti.com/litv/pdf/msoi002j
footprint TI-D8_N (SOIC, 8-Leads, Body 4.9x3.9mm, Pitch 1.27mm, IPC Medium Density)
footprint TI-D8_L (SOIC, 8-Leads, Body 4.9x3.9mm, Pitch 1.27mm, IPC High Density)
footprint TI-D8_M (SOIC, 8-Leads, Body 4.9x3.9mm, Pitch 1.27mm, IPC Low Density)
pins: 1 DIN (in) "Serial digital data input", 2 SCLK (in) "Serial digital clock input", 3 ~{CS} (in) "Chip select. Digital input used to enable and disable inputs, active low.", 4 FS (in) "Frame sync. Digital input used for 4-wire serial interfaces such as the TMS320 DSP interface.", 5 AGND (power) "Analog ground", 6 REFIN (in) "Reference analog input voltage", 7 OUT (out) "DAC analog output", 8 VDD (power) "Positive power supply"

## TLV5624CD
designator U?
8-Bit, 1 to 3.5 us DAC, Serial Input, Programmable Internal Reference, Settling Time, 0 to 70 degC, 8-pin SOIC (D8), Green (RoHS & no Sb/Br); Manufacturer: Texas Instruments; PartNumber: TLV5624CD; DAC Channels: 1; DNL(Max)(+/-LSB): 0.2; INL(Max)(+/-LSB): 0.5; Interface: Serial SPI; Power Consumption(Typ)(mW): 0.9; Resolution(Bits): 8; SFDR(dB): 62; SNR(dB): 57; SubFamily: Precision DAC (=<10MSPS); DatasheetVersion: SLAS235B; PackageVersion: 4040047-3/M, 06/2011; PackageReference: D8; PackageDescription: 8-Pin Plastic Small Outline, Body 4.9 x 3.9 mm, Pitch 1.27 mm; Supplier 1: Digi-Key; Supplier Part Number 1: 296-2309-5-ND; Supplier 2: Newark; Supplier Part Number 2: 19C9014; Supplier 3: Mouser; Supplier Part Number 3: 595-TLV5624CD; Eco-Plan: Green (RoHS & no Sb/Br); Settling Time(us): 1; Mounting Technology: Surface Mount; Code_JEDEC: MS-012; ComponentLink1Description: Manufacturer URL; ComponentLink1URL: http://www.ti.com/; ComponentLink2Description: Datasheet; ComponentLink2URL: http://www.ti.com/general/docs/lit/getliterature.tsp?genericPartNumber=TLV5624&fileType=pdf; ComponentLink3Description: Package Specification; ComponentLink3URL: http://www.ti.com/litv/pdf/msoi002j
footprint TI-D8_N (SOIC, 8-Leads, Body 4.9x3.9mm, Pitch 1.27mm, IPC Medium Density)
footprint TI-D8_L (SOIC, 8-Leads, Body 4.9x3.9mm, Pitch 1.27mm, IPC High Density)
footprint TI-D8_M (SOIC, 8-Leads, Body 4.9x3.9mm, Pitch 1.27mm, IPC Low Density)
pins: 1 DIN (in) "Digital serial data input", 2 SCLK (in) "Digital serial clock input", 3 ~{CS} (in) "Chip select. Digital input active low, used to enable/disable inputs", 4 FS (in) "Frame sync input", 5 AGND (power) "Ground", 6 REF (io) "Analog reference voltage input/output", 7 OUT (out) "DAC A analog voltage output", 8 VDD (power) "Positive power supply"

## TLV5624CDG4
designator U?
8-Bit, 1 to 3.5 us DAC, Serial Input, Programmable Internal Reference, Settling Time, 0 to 70 degC, 8-pin SOIC (D8), Green (RoHS & no Sb/Br); Manufacturer: Texas Instruments; PartNumber: TLV5624CDG4; DAC Channels: 1; DNL(Max)(+/-LSB): 0.2; INL(Max)(+/-LSB): 0.5; Interface: Serial SPI; Power Consumption(Typ)(mW): 0.9; Resolution(Bits): 8; SFDR(dB): 62; SNR(dB): 57; SubFamily: Precision DAC (=<10MSPS); DatasheetVersion: SLAS235B; PackageVersion: 4040047-3/M, 06/2011; PackageReference: D8; PackageDescription: 8-Pin Plastic Small Outline, Body 4.9 x 3.9 mm, Pitch 1.27 mm; Supplier 1: Digi-Key; Supplier Part Number 1: TLV5624CDG4-ND; Supplier 2: Mouser; Supplier Part Number 2: 595-TLV5624CDG4; Eco-Plan: Green (RoHS & no Sb/Br); Settling Time(us): 1; Mounting Technology: Surface Mount; Code_JEDEC: MS-012; ComponentLink1Description: Manufacturer URL; ComponentLink1URL: http://www.ti.com/; ComponentLink2Description: Datasheet; ComponentLink2URL: http://www.ti.com/general/docs/lit/getliterature.tsp?genericPartNumber=TLV5624&fileType=pdf; ComponentLink3Description: Package Specification; ComponentLink3URL: http://www.ti.com/litv/pdf/msoi002j
footprint TI-D8_N (SOIC, 8-Leads, Body 4.9x3.9mm, Pitch 1.27mm, IPC Medium Density)
footprint TI-D8_L (SOIC, 8-Leads, Body 4.9x3.9mm, Pitch 1.27mm, IPC High Density)
footprint TI-D8_M (SOIC, 8-Leads, Body 4.9x3.9mm, Pitch 1.27mm, IPC Low Density)
pins: 1 DIN (in) "Digital serial data input", 2 SCLK (in) "Digital serial clock input", 3 ~{CS} (in) "Chip select. Digital input active low, used to enable/disable inputs", 4 FS (in) "Frame sync input", 5 AGND (power) "Ground", 6 REF (io) "Analog reference voltage input/output", 7 OUT (out) "DAC A analog voltage output", 8 VDD (power) "Positive power supply"